# EAGLE library part AKL18X-06 (library con-riacon)
Riacon AKL18X Steckverbinder 6-Pol Grid = 3,5mm
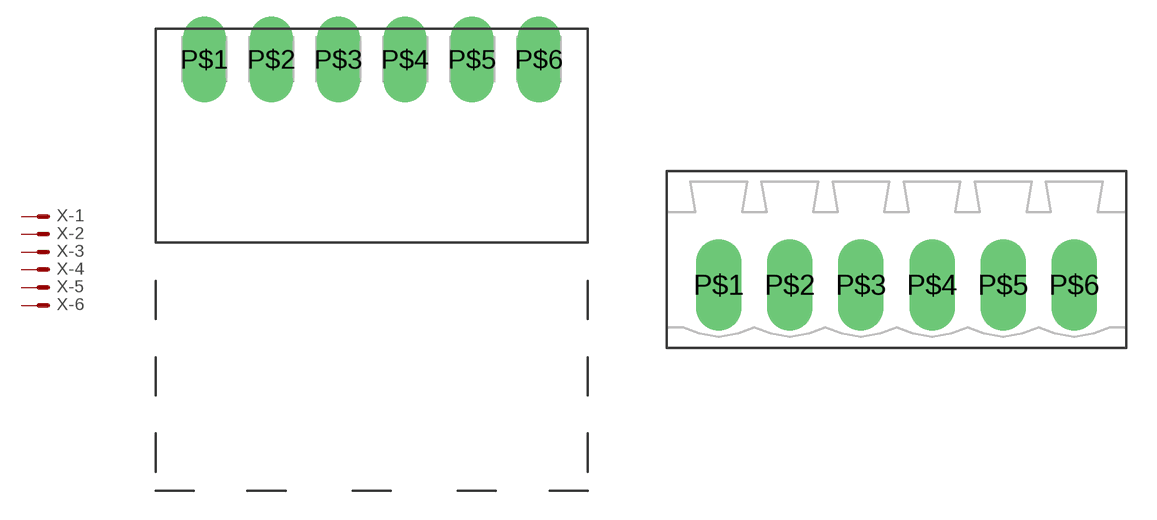
[diagram p0: symbol with the pads of AKL182-06; footprints AKL182-06, AKL183-06]

Designator prefix X; gates -1=M -2=M -3=M -4=M -5=M -6=M

## AKL18X-06W  [AKL182-06]
P$1  -1:S  pas
P$2  -2:S  pas
P$3  -3:S  pas
P$4  -4:S  pas
P$5  -5:S  pas
P$6  -6:S  pas

## AKL18X-06G  [AKL183-06]
Pads as for AKL182-06

## Footprint AKL182-06 (pad centres in mm)
drill 1.5 pad 2.184 long: P$1 -8.75,0; P$2 -5.25,0; P$3 -1.75,0; P$4 1.75,0; P$5 5.25,0; P$6 8.75,0

## Footprint AKL183-06 (pad centres in mm)
drill 1.5 pad 2.184 long: P$1 -8.75,0; P$2 -5.25,0; P$3 -1.75,0; P$4 1.75,0; P$5 5.25,0; P$6 8.75,0